# Altium schematic symbol library RF_Module.SchLib: 2 symbols
Pins are listed as number, name and electrical type; pins without a type are passive.

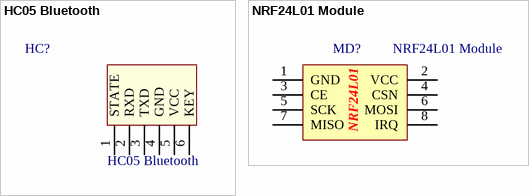
[diagram p0: symbols HC05 Bluetooth to NRF24L01 Module]

## HC05 Bluetooth
designator HC?
Bluetooth HC05; Value: Connector 6
footprint HC05 Bluethooth Dung (Connector; Header; 6 Position)
footprint HC05 Bluethooth Nam (Connector; Header; 6 Position)
pins: 1 STATE, 2 RXD, 3 TXD, 4 GND, 5 VCC, 6 KEY

## NRF24L01 Module
designator MD?
footprint NRF24L01
pins: 1 GND, 2 VCC, 3 CE, 4 CSN, 5 SCK, 6 MOSI, 7 MISO, 8 IRQ
text: NRF24L01